# Altium schematic symbol library ACS758LCB-100B-PFF-T.SchLib: 1 symbol
Pins are listed as number, name and electrical type; pins without a type are passive.

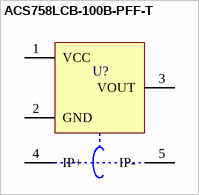
[diagram p0: symbol ACS758LCB-100B-PFF-T]

## ACS758LCB-100B-PFF-T
designator U?
100 Amps Hall Effect Linear Current Sensor
pins: 1 VCC, 2 GND, 3 VOUT, 4 IP+, 5 IP-